# Altium footprint library SOT150P700X180-5N.PcbLib: 1 footprints
Each footprint in its own frame and in the unit in brackets; x right, y up, seen from the top. Pads: shape width x height; smd on the part's side, far side on the other; paste and mask are expansions set on the pad; w line width, h text height; cw(c..) or ccw(c..) is an arc to the next point about the centre after c.
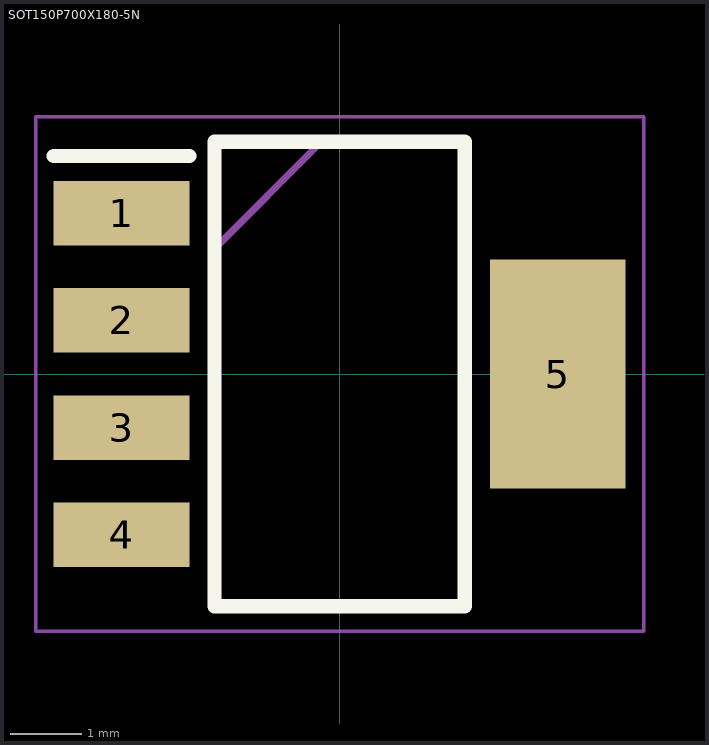
[diagram p0: the footprint, top view; thin cyan lines are the x and y axes]

## SOT150P700X180-5N [mm]
pads (5):
  rect 1.9x0.9 smd: 1(-3.05,2.25) 2(-3.05,0.75) 3(-3.05,-0.75) 4(-3.05,-2.25)
  rect 1.9x3.2 smd: 5(3.05,0)
Top Overlay:
  lines w0.2: -4,3.05 -2.1,3.05 ; -1.75,-3.25 1.75,-3.25 1.75,3.25 -1.75,3.25 -1.75,-3.25
Mechanical 15:
  lines w0.1: -1.755,1.75 -0.255,3.25 ; -1.755,-3.25 1.755,-3.25 1.755,3.25 -1.755,3.25 -1.755,-3.25
Mechanical 20:
  lines w0.05: -4.25,-3.6 4.25,-3.6 4.25,3.6 -4.25,3.6 -4.25,-3.6